# Altium integrated library SnapEDA_Library.IntLib: 26 symbols (part 1 of 2)
Pins are listed as number, name and electrical type; pins without a type are passive.

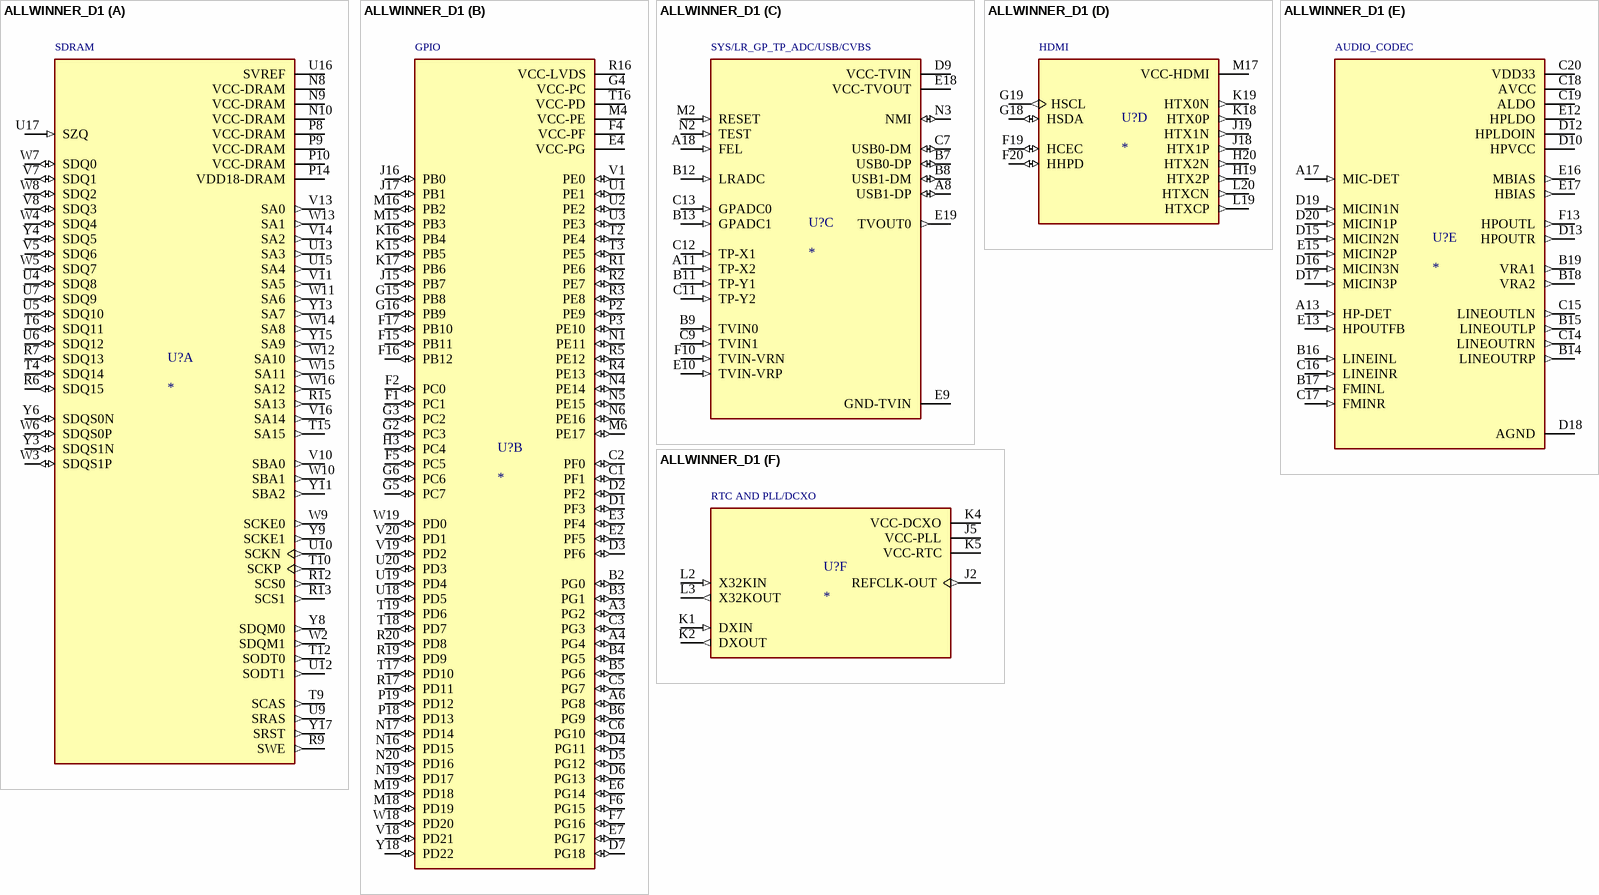
[diagram p0: symbol ALLWINNER_D1]

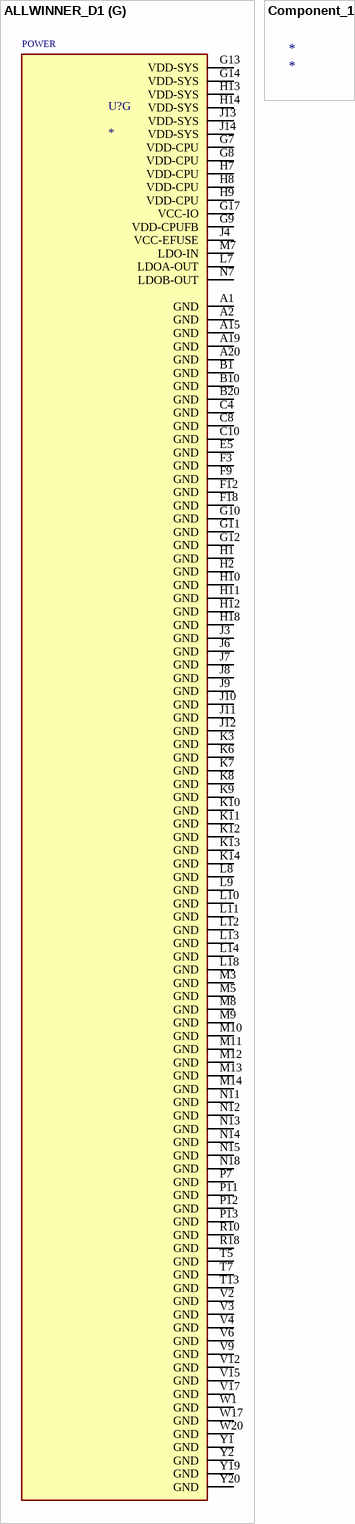
[diagram p1: symbols ALLWINNER_D1 to Component_1]

## ALLWINNER_D1
designator U?
MF: {'manufacturer': u'Allwinner Technology'}; MP: ALLWINNER_D1; Value: *; Availability: Unavailable; Price: None; Package: None
footprint BGA337C65P20X20_1300X1300X133
part A pins: N8 VCC-DRAM (power), N9 VCC-DRAM (power), N10 VCC-DRAM (power), P8 VCC-DRAM (power), P9 VCC-DRAM (power), P10 VCC-DRAM (power), P14 VDD18-DRAM (power), R6 SDQ15 (io), R7 SDQ13 (io), R9 SWE (out), R12 SCS0 (out), R13 SCS1 (out), R15 SA13 (out), T4 SDQ14 (io), T6 SDQ11 (io), T9 SCAS (out), T10 SCKP (out), T12 SODT0 (out), T15 SA15 (out), U4 SDQ8 (io), U5 SDQ10 (io), U6 SDQ12 (io), U7 SDQ9 (io), U9 SRAS (out), U10 SCKN (out), U12 SODT1 (out), U13 SA3 (out), U15 SA4 (out), U16 SVREF (power), U17 SZQ (in), V5 SDQ6 (io), V7 SDQ1 (io), V8 SDQ3 (io), V10 SBA0 (out), V11 SA5 (out), V13 SA0 (out), V14 SA2 (out), V16 SA14 (out), W2 SDQM1 (out), W3 SDQS1P (io), W4 SDQ4 (io), W5 SDQ7 (io), W6 SDQS0P (io), W7 SDQ0 (io), W8 SDQ2 (io), W9 SCKE0 (out), W10 SBA1 (out), W11 SA6 (out), W12 SA10 (out), W13 SA1 (out), W14 SA8 (out), W15 SA11 (out), W16 SA12 (out), Y3 SDQS1N (io), Y4 SDQ5 (io), Y6 SDQS0N (io), Y8 SDQM0 (out), Y9 SCKE1 (out), Y11 SBA2 (out), Y13 SA7 (out), Y15 SA9 (out), Y17 SRST (out)
part B pins: A3 PG2 (io), A4 PG4 (io), A6 PG8 (io), B2 PG0 (io), B3 PG1 (io), B4 PG5 (io), B5 PG6 (io), B6 PG9 (io), C1 PF1 (io), C2 PF0 (io), C3 PG3 (io), C5 PG7 (io), C6 PG10 (io), D1 PF3 (io), D2 PF2 (io), D3 PF6 (io), D4 PG11 (io), D5 PG12 (io), D6 PG13 (io), D7 PG18 (io), E2 PF5 (io), E3 PF4 (io), E4 VCC-PG (power), E6 PG14 (io), E7 PG17 (io), F1 PC1 (io), F2 PC0 (io), F4 VCC-PF (power), F5 PC5 (io), F6 PG15 (io), F7 PG16 (io), F15 PB11 (io), F16 PB12 (io), F17 PB10 (io), G2 PC3 (io), G3 PC2 (io), G4 VCC-PC (power), G5 PC7 (io), G6 PC6 (io), G15 PB8 (io), G16 PB9 (io), H3 PC4 (io), J15 PB7 (io), J16 PB0 (io), J17 PB1 (io), K15 PB5 (io), K16 PB4 (io), K17 PB6 (io), M4 VCC-PE (power), M6 PE17 (io), M15 PB3 (io), M16 PB2 (io), M18 PD19 (io), M19 PD18 (io), N1 PE11 (io), N4 PE14 (io), N5 PE15 (io), N6 PE16 (io), N16 PD15 (io), N17 PD14 (io), N19 PD17 (io), N20 PD16 (io), P2 PE9 (io), P3 PE10 (io), P18 PD13 (io), P19 PD12 (io), R1 PE6 (io), R2 PE7 (io), R3 PE8 (io), R4 PE13 (io), R5 PE12 (io), R16 VCC-LVDS (power), R17 PD11 (io), R19 PD9 (io), R20 PD8 (io), T2 PE4 (io), T3 PE5 (io), T16 VCC-PD (power), T17 PD10 (io), T18 PD7 (io), T19 PD6 (io), U1 PE1 (io), U2 PE2 (io), U3 PE3 (io), U18 PD5 (io), U19 PD4 (io), U20 PD3 (io), V1 PE0 (io), V18 PD21 (io), V19 PD2 (io), V20 PD1 (io), W18 PD20 (io), W19 PD0 (io), Y18 PD22 (io)
part C pins: A8 USB1-DP (io), A11 TP-X2 (in), A18 FEL (in), B7 USB0-DP (io), B8 USB1-DM (io), B9 TVIN0 (in), B11 TP-Y1 (in), B12 LRADC (in), B13 GPADC1 (in), C7 USB0-DM (io), C9 TVIN1 (in), C11 TP-Y2 (in), C12 TP-X1 (in), C13 GPADC0 (in), D9 VCC-TVIN (power), E9 GND-TVIN (power), E10 TVIN-VRP (in), E18 VCC-TVOUT (power), E19 TVOUT0 (out), F10 TVIN-VRN (in), M2 RESET (in), N2 TEST (in), N3 NMI (io)
part D pins: F19 HCEC (io), F20 HHPD (io), G18 HSDA (io), G19 HSCL (out), H19 HTX2P (out), H20 HTX2N (out), J18 HTX1P (out), J19 HTX1N (out), K18 HTX0P (out), K19 HTX0N (out), L19 HTXCP (out), L20 HTXCN (out), M17 VCC-HDMI (power)
part E pins: A13 HP-DET (in), A17 MIC-DET (in), B14 LINEOUTRP (out), B15 LINEOUTLP (out), B16 LINEINL (in), B17 FMINL (in), B18 VRA2 (out), B19 VRA1 (out), C14 LINEOUTRN (out), C15 LINEOUTLN (out), C16 LINEINR (in), C17 FMINR (in), C18 AVCC (power), C19 ALDO (power), C20 VDD33 (power), D10 HPVCC (power), D12 HPLDOIN (power), D13 HPOUTR (out), D15 MICIN2N (in), D16 MICIN3N (in), D17 MICIN3P (in), D18 AGND (power), D19 MICIN1N (in), D20 MICIN1P (in), E12 HPLDO (power), E13 HPOUTFB (in), E15 MICIN2P (in), E16 MBIAS (out), E17 HBIAS (out), F13 HPOUTL (out)
part F pins: J2 REFCLK-OUT (out), J5 VCC-PLL (power), K1 DXIN (in), K2 DXOUT (out), K4 VCC-DCXO (power), K5 VCC-RTC (power), L2 X32KIN (in), L3 X32KOUT (out)
part G pins: A1 GND (power), A2 GND (power), A15 GND (power), A19 GND (power), A20 GND (power), B1 GND (power), B10 GND (power), B20 GND (power), C4 GND (power), C8 GND (power), C10 GND (power), E5 GND (power), F3 GND (power), F9 GND (power), F12 GND (power), F18 GND (power), G7 VDD-CPU (power), G8 VDD-CPU (power), G9 VDD-CPUFB (power), G10 GND (power), G11 GND (power), G12 GND (power), G13 VDD-SYS (power), G14 VDD-SYS (power), G17 VCC-IO (power), H1 GND (power), H2 GND (power), H7 VDD-CPU (power), H8 VDD-CPU (power), H9 VDD-CPU (power), H10 GND (power), H11 GND (power), H12 GND (power), H13 VDD-SYS (power), H14 VDD-SYS (power), H18 GND (power), J3 GND (power), J4 VCC-EFUSE (power), J6 GND (power), J7 GND (power), J8 GND (power), J9 GND (power), J10 GND (power), J11 GND (power), J12 GND (power), J13 VDD-SYS (power), J14 VDD-SYS (power), K3 GND (power), K6 GND (power), K7 GND (power), K8 GND (power), K9 GND (power), K10 GND (power), K11 GND (power), K12 GND (power), K13 GND (power), K14 GND (power), L7 LDOA-OUT (power), L8 GND (power), L9 GND (power), L10 GND (power), L11 GND (power), L12 GND (power), L13 GND (power), L14 GND (power), L18 GND (power), M3 GND (power), M5 GND (power), M7 LDO-IN (power), M8 GND (power), M9 GND (power), M10 GND (power), M11 GND (power), M12 GND (power), M13 GND (power), M14 GND (power), N7 LDOB-OUT (power), N11 GND (power), N12 GND (power), N13 GND (power), N14 GND (power), N15 GND (power), N18 GND (power), P7 GND (power), P11 GND (power), P12 GND (power), P13 GND (power), R10 GND (power), R18 GND (power), T5 GND (power), T7 GND (power), T13 GND (power), V2 GND (power), V3 GND (power), V4 GND (power), V6 GND (power), V9 GND (power), V12 GND (power), V15 GND (power), V17 GND (power), W1 GND (power), W17 GND (power), W20 GND (power), Y1 GND (power), Y2 GND (power), Y19 GND (power), Y20 GND (power)
part A text: SDRAM
part B text: GPIO
part C text: SYS/LR_GP_TP_ADC/USB/CVBS
part D text: HDMI
part E text: AUDIO_CODEC
part F text: RTC AND PLL/DCXO
part G text: POWER

## Component_1
designator *


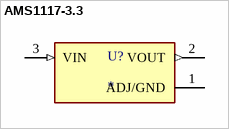
[diagram p2: symbol AMS1117-3.3]

## AMS1117-3.3
designator U?
Sot223/Pkg 1-Amp 3.3-Volt Low Drop Out Voltage Regulatator; MF: {'manufacturer': u'Advanced Monolithic Systems'}; MP: AMS1117-3.3; Price: None; Availability: Unavailable; Package: None; Value: *
footprint SOT229P700X180-4N
pins: 1 ADJ/GND (power), 2 VOUT (out), 3 VIN (in)


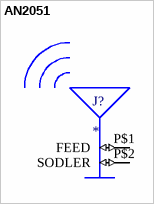
[diagram p3: symbol AN2051]

## AN2051
designator J?
AN2051 Multilayer Chip Antenna; MF: {'manufacturer': u'RainSun'}; Value: *; Package: None; MP: AN2051; Price: None; Availability: Unavailable
footprint AN2051
pins: P$1 FEED (io), P$2 SODLER (io)


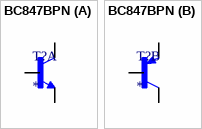
[diagram p4: symbol BC847BPN]

## BC847BPN
designator T?
NPN/PNP general-purpose transistor pair in a very small SOT363 (SC-88) Surface-Mounted Device (SMD) plastic package. <p><author>AAL Eindhoven MK</author><hr><p>  <img src="http://www.nxp.com/img/NXP_logo.png">; MP: BC847BPN; MF: {'manufacturer': u'NXP Semiconductors'}; Value: *; Availability: Unavailable; Package: None; Price: None
footprint SOT363
part A pins: 1 E, 2 B, 6 C
part B pins: 3 C, 4 E, 5 B


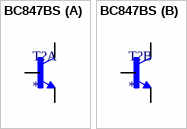
[diagram p5: symbol BC847BS]

## BC847BS
designator T?
NPN/NPN general-purpose transistor pair in a very small SOT363 (SC-88) Surface-Mounted Device (SMD) plastic package. <p><author>AAL Eindhoven MK</author><hr><p>  <img src="http://www.nxp.com/img/NXP_logo.png">; MP: BC847BS; MF: {'manufacturer': u'ON Semiconductor'}; Value: *; Availability: Unavailable; Package: None; Price: None
footprint SOT363
part A pins: 1 E, 2 B, 6 C
part B pins: 1 E, 2 B, 6 C


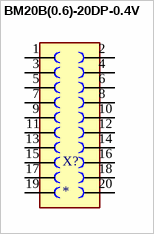
[diagram p6: symbol BM20B(0.6)-20DP-0.4V]

## BM20B(0.6)-20DP-0.4V
designator X?
<b>SMD CONNECTOR</b><p> Source: con-hirose.lbr from Bob Starr &lt;rtzaudio@mindspring.com&gt;; MP: BM20B(0.6)-20DP-0.4V; MF: {'manufacturer': u'Hirose Electric Co Ltd'}; Price: None; Availability: Unavailable; Value: *; Package: None
footprint BM20B(0.6)-20DP-0.4V_2
pins: 1, 2, 3, 4, 5, 6, 7, 8, 9, 10, 11, 12, 13, 14, 15, 16, 17, 18, 19, 20


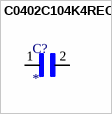
[diagram p7: symbol C0402C104K4REC]

## C0402C104K4REC
designator C?
MP: C0402C104K4REC; MF: {'manufacturer': u'KEMET'}; Package: None; Availability: Unavailable; Price: None; Value: *
footprint CAPC1005X55N
pins: 1, 2


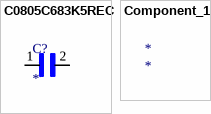
[diagram p8: symbols C0805C683K5REC to Component_1]

## C0805C683K5REC
designator C?
MF: {'manufacturer': u'KEMET'}; MP: C0805C683K5REC; Value: *; Availability: Unavailable; Price: None; Package: None
footprint CAPC2012X110N
pins: 1, 2

## Component_1
designator *


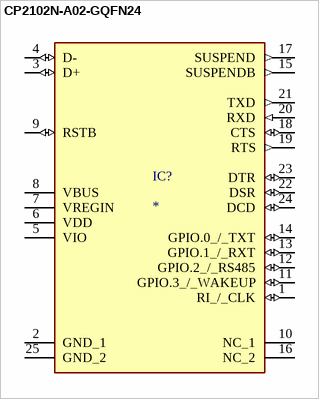
[diagram p9: symbol CP2102N-A02-GQFN24]

## CP2102N-A02-GQFN24
designator IC?
<b>USB Interface IC USB to UART bridge - QFN24</b><p> Source: <a href="https://componentsearchengine.com/Datasheets/1/CP2102N-A02-GQFN24.pdf"> Datasheet </a>; MF: {'manufacturer': u'Silicon Labs'}; Package: None; Value: *; Price: None; MP: CP2102N-A02-GQFN24; Availability: Unavailable
footprint QFN50P400X400X80-25N
pins: 1 RI_/_CLK (io), 2 GND_1 (power), 3 D+ (io), 4 D- (io), 5 VIO (power), 6 VDD (power), 7 VREGIN (power), 8 VBUS (power), 9 RSTB (io), 10 NC_1, 11 GPIO.3_/_WAKEUP (io), 12 GPIO.2_/_RS485 (io), 13 GPIO.1_/_RXT (io), 14 GPIO.0_/_TXT (io), 15 SUSPENDB (out), 16 NC_2, 17 SUSPEND (out), 18 CTS (io), 19 RTS (out), 20 RXD (in), 21 TXD (out), 22 DSR (io), 23 DTR (io), 24 DCD (io), 25 GND_2 (power)


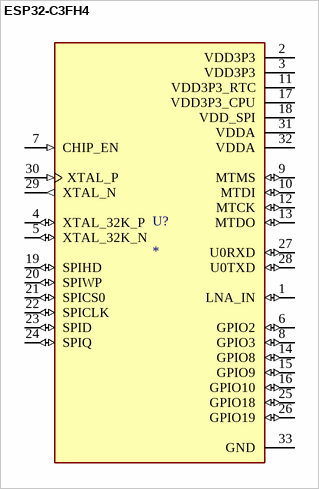
[diagram p10: symbol ESP32-C3FH4]

## ESP32-C3FH4
designator U?
MF: {'manufacturer': u'Espressif Systems'}; MP: ESP32-C3FH4; Value: *; Price: None; Package: None; Availability: Unavailable
footprint QFN50P500X500X90-33N
pins: 1 LNA_IN (io), 2 VDD3P3 (power), 3 VDD3P3 (power), 4 XTAL_32K_P (io), 5 XTAL_32K_N (io), 6 GPIO2 (io), 7 CHIP_EN (in), 8 GPIO3 (io), 9 MTMS (io), 10 MTDI (io), 11 VDD3P3_RTC (power), 12 MTCK (io), 13 MTDO (io), 14 GPIO8 (io), 15 GPIO9 (io), 16 GPIO10 (io), 17 VDD3P3_CPU (power), 18 VDD_SPI (power), 19 SPIHD (io), 20 SPIWP (io), 21 SPICS0 (io), 22 SPICLK (io), 23 SPID (io), 24 SPIQ (io), 25 GPIO18 (io), 26 GPIO19 (io), 27 U0RXD (io), 28 U0TXD (io), 29 XTAL_N (out), 30 XTAL_P (in), 31 VDDA (power), 32 VDDA (power), 33 GND (power)


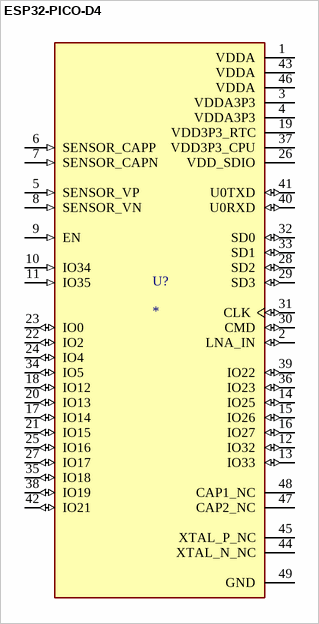
[diagram p11: symbol ESP32-PICO-D4]

## ESP32-PICO-D4
designator U?
Bluetooth, WiFi 802.11b/g/n, Bluetooth v4.2 +EDR, Class 1, 2 and 3 Transceiver Module 2.4GHz ~ 2.5GHz Surface Mount; MF: {'manufacturer': u'Espressif Systems'}; MP: ESP32-PICO-D4; Value: *; Price: None; Availability: Unavailable; Package: None
footprint PQFN50P700X700X104-49N
pins: 1 VDDA (power), 2 LNA_IN (io), 3 VDDA3P3 (power), 4 VDDA3P3 (power), 5 SENSOR_VP (in), 6 SENSOR_CAPP (in), 7 SENSOR_CAPN (in), 8 SENSOR_VN (in), 9 EN (in), 10 IO34 (in), 11 IO35 (in), 12 IO32 (io), 13 IO33 (io), 14 IO25 (io), 15 IO26 (io), 16 IO27 (io), 17 IO14 (io), 18 IO12 (io), 19 VDD3P3_RTC (power), 20 IO13 (io), 21 IO15 (io), 22 IO2 (io), 23 IO0 (io), 24 IO4 (io), 25 IO16 (io), 26 VDD_SDIO (power), 27 IO17 (io), 28 SD2 (io), 29 SD3 (io), 30 CMD (io), 31 CLK (io), 32 SD0 (io), 33 SD1 (io), 34 IO5 (io), 35 IO18 (io), 36 IO23 (io), 37 VDD3P3_CPU (power), 38 IO19 (io), 39 IO22 (io), 40 U0RXD (io), 41 U0TXD (io), 42 IO21 (io), 43 VDDA (power), 44 XTAL_N_NC, 45 XTAL_P_NC, 46 VDDA (power), 47 CAP2_NC, 48 CAP1_NC, 49 GND (power)


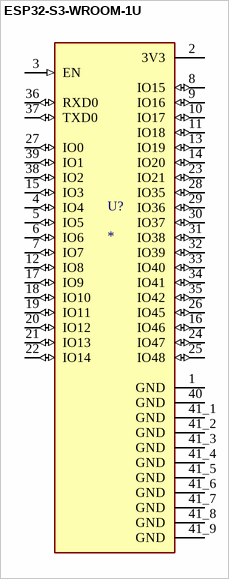
[diagram p12: symbol ESP32-S3-WROOM-1U]

## ESP32-S3-WROOM-1U
designator U?
2.4 GHz Wi-Fi (802.11 b/g/n) and Bluetooth 5 (LE) module; MP: ESP32-S3-WROOM-1U; MF: {'manufacturer': u'Espressif Systems'}; Value: *; Package: None; Price: None; Availability: Unavailable
footprint XCVR_ESP32-S3-WROOM-1U
pins: 1 GND (power), 2 3V3 (power), 3 EN (in), 4 IO4 (io), 5 IO5 (io), 6 IO6 (io), 7 IO7 (io), 8 IO15 (io), 9 IO16 (io), 10 IO17 (io), 11 IO18 (io), 12 IO8 (io), 13 IO19 (io), 14 IO20 (io), 15 IO3 (io), 16 IO46 (io), 17 IO9 (io), 18 IO10 (io), 19 IO11 (io), 20 IO12 (io), 21 IO13 (io), 22 IO14 (io), 23 IO21 (io), 24 IO47 (io), 25 IO48 (io), 26 IO45 (io), 27 IO0 (io), 28 IO35 (io), 29 IO36 (io), 30 IO37 (io), 31 IO38 (io), 32 IO39 (io), 33 IO40 (io), 34 IO41 (io), 35 IO42 (io), 36 RXD0 (io), 37 TXD0 (io), 38 IO2 (io), 39 IO1 (io), 40 GND (power), 41_1 GND (power), 41_2 GND (power), 41_3 GND (power), 41_4 GND (power), 41_5 GND (power), 41_6 GND (power), 41_7 GND (power), 41_8 GND (power), 41_9 GND (power)


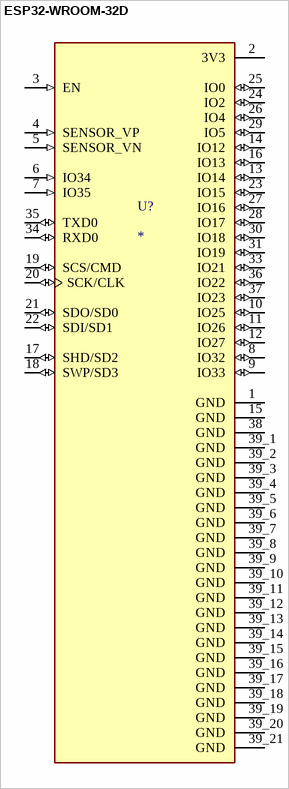
[diagram p13: symbol ESP32-WROOM-32D]

## ESP32-WROOM-32D
designator U?
Bluetooth, WiFi 802.11b/g/n, Bluetooth v4.2 + EDR, Class 1, 2 and 3 Transceiver Module 2.4GHz ~ 2.5GHz Integrated, Trace Surface Mount; MF: {'manufacturer': u'Espressif Systems'}; MP: ESP32-WROOM-32D; Value: *; Package: None; Price: None; Availability: Unavailable
footprint MODULE_ESP32-WROOM-32D
pins: 1 GND (power), 2 3V3 (power), 3 EN (in), 4 SENSOR_VP (in), 5 SENSOR_VN (in), 6 IO34 (in), 7 IO35 (in), 8 IO32 (io), 9 IO33 (io), 10 IO25 (io), 11 IO26 (io), 12 IO27 (io), 13 IO14 (io), 14 IO12 (io), 15 GND (power), 16 IO13 (io), 17 SHD/SD2 (io), 18 SWP/SD3 (io), 19 SCS/CMD (io), 20 SCK/CLK (io), 21 SDO/SD0 (io), 22 SDI/SD1 (io), 23 IO15 (io), 24 IO2 (io), 25 IO0 (io), 26 IO4 (io), 27 IO16 (io), 28 IO17 (io), 29 IO5 (io), 30 IO18 (io), 31 IO19 (io), 33 IO21 (io), 34 RXD0 (io), 35 TXD0 (io), 36 IO22 (io), 37 IO23 (io), 38 GND (power), 39_1 GND (power), 39_2 GND (power), 39_3 GND (power), 39_4 GND (power), 39_5 GND (power), 39_6 GND (power), 39_7 GND (power), 39_8 GND (power), 39_9 GND (power), 39_10 GND (power), 39_11 GND (power), 39_12 GND (power), 39_13 GND (power), 39_14 GND (power), 39_15 GND (power), 39_16 GND (power), 39_17 GND (power), 39_18 GND (power), 39_19 GND (power), 39_20 GND (power), 39_21 GND (power)


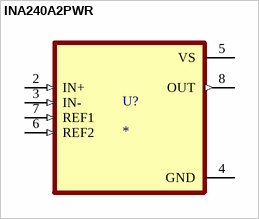
[diagram p14: symbol INA240A2PWR]

## INA240A2PWR
designator U?
MF: {'manufacturer': u'Texas Instruments'}; MP: INA240A2PWR; Price: None; Availability: Unavailable; Package: None; Value: *
footprint SOP65P640X120-8N
pins: 2 IN+ (in), 3 IN- (in), 4 GND (power), 5 VS (power), 6 REF2 (in), 7 REF1 (in), 8 OUT (out)


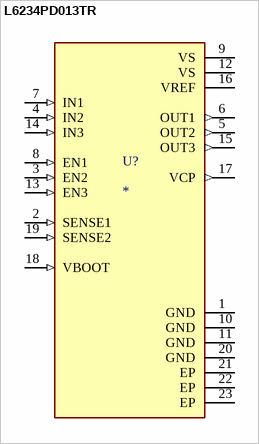
[diagram p15: symbol L6234PD013TR]

## L6234PD013TR
designator U?
3-Phase Brushless DC Motor Controller 42V Automotive 20-Pin PowerSO T/R; MF: {'manufacturer': u'STMicroelectronics'}; MP: L6234PD013TR; Price: None; Availability: Unavailable; Package: None; Value: *
footprint SOIC127P1420X360-21N
pins: 1 GND (power), 2 SENSE1 (in), 3 EN2 (in), 4 IN2 (in), 5 OUT2 (out), 6 OUT1 (out), 7 IN1 (in), 8 EN1 (in), 9 VS (power), 10 GND (power), 11 GND (power), 12 VS (power), 13 EN3 (in), 14 IN3 (in), 15 OUT3 (out), 16 VREF (power), 17 VCP (out), 18 VBOOT (in), 19 SENSE2 (in), 20 GND (power), 21 EP (power), 22 EP (power), 23 EP (power)


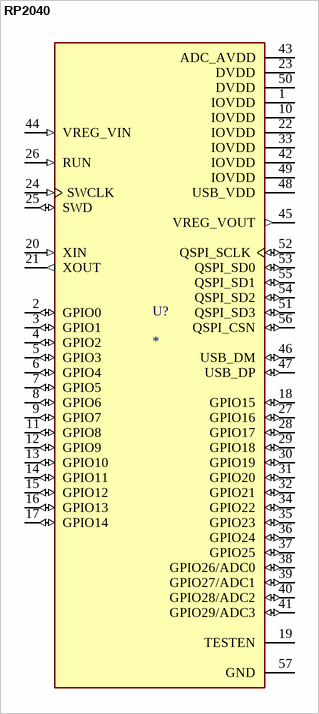
[diagram p16: symbol RP2040]

## RP2040
designator U?
MF: {'manufacturer': u'Raspberry Pi'}; MP: RP2040; Value: *; Price: None; Package: None; Availability: Unavailable
footprint QFN40P700X700X90-57N
pins: 1 IOVDD (power), 2 GPIO0 (io), 3 GPIO1 (io), 4 GPIO2 (io), 5 GPIO3 (io), 6 GPIO4 (io), 7 GPIO5 (io), 8 GPIO6 (io), 9 GPIO7 (io), 10 IOVDD (power), 11 GPIO8 (io), 12 GPIO9 (io), 13 GPIO10 (io), 14 GPIO11 (io), 15 GPIO12 (io), 16 GPIO13 (io), 17 GPIO14 (io), 18 GPIO15 (io), 19 TESTEN, 20 XIN (in), 21 XOUT (out), 22 IOVDD (power), 23 DVDD (power), 24 SWCLK (in), 25 SWD (io), 26 RUN (in), 27 GPIO16 (io), 28 GPIO17 (io), 29 GPIO18 (io), 30 GPIO19 (io), 31 GPIO20 (io), 32 GPIO21 (io), 33 IOVDD (power), 34 GPIO22 (io), 35 GPIO23 (io), 36 GPIO24 (io), 37 GPIO25 (io), 38 GPIO26/ADC0 (io), 39 GPIO27/ADC1 (io), 40 GPIO28/ADC2 (io), 41 GPIO29/ADC3 (io), 42 IOVDD (power), 43 ADC_AVDD (power), 44 VREG_VIN (in), 45 VREG_VOUT (out), 46 USB_DM (io), 47 USB_DP (io), 48 USB_VDD (power), 49 IOVDD (power), 50 DVDD (power), 51 QSPI_SD3 (io), 52 QSPI_SCLK (io), 53 QSPI_SD0 (io), 54 QSPI_SD2 (io), 55 QSPI_SD1 (io), 56 QSPI_CSN (io), 57 GND (power)


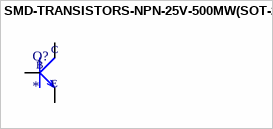
[diagram p17: symbol SMD-TRANSISTORS-NPN-25V-500MW(SOT-23)]

## SMD-TRANSISTORS-NPN-25V-500MW(SOT-23)
designator Q?
305010017; MP: S8050; MF: {'manufacturer': u'Microdiode Electronics'}; Value: *; Package: None; Price: None; Availability: Unavailable
footprint SOT-23
pins: 1 B, 2 E, 3 C


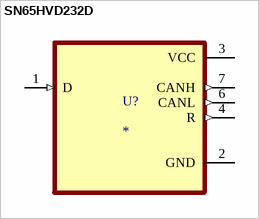
[diagram p18: symbol SN65HVD232D]

## SN65HVD232D
designator U?
MP: SN65HVD232D; MF: {'manufacturer': u'Texas Instruments'}; Availability: Unavailable; Package: None; Price: None; Value: *
footprint SOIC127P599X175-8N
pins: 1 D (in), 2 GND (power), 3 VCC (power), 4 R (out), 6 CANL (out), 7 CANH (out)


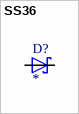
[diagram p19: symbol SS36]

## SS36
designator D?
3A 60V Schottky diode; MF: {'manufacturer': u'ON Semiconductor'}; MP: SS36; Price: None; Availability: Unavailable; Package: None; Value: *
footprint SMA
pins: A, C


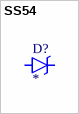
[diagram p20: symbol SS54]

## SS54
designator D?
SCHOTTKY DIODES 40Vpeak, 28Vrms 5A (SBD) SMA(DO-214AC); MF: {'manufacturer': u'Honeywell Sensing'}; MP: SS54; Price: None; Availability: Unavailable; Package: None; Value: *
footprint DO-214AC
pins: A, C


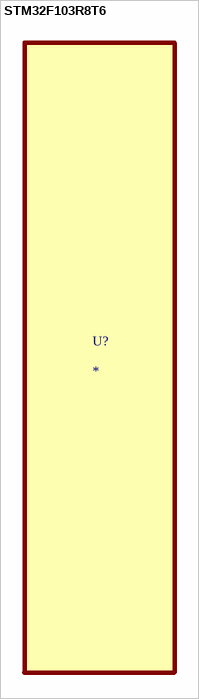
[diagram p21: symbol STM32F103R8T6]

## STM32F103R8T6
designator U?
MP: STM32F103R8T6; MF: {'manufacturer': u'STMicroelectronics'}; Package: None; Availability: Unavailable; Price: None; Value: *


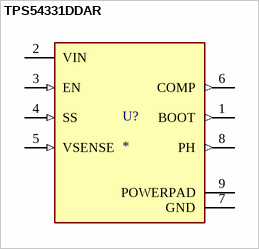
[diagram p22: symbol TPS54331DDAR]

## TPS54331DDAR
designator U?
3.5V to 28V Input, 3A, 570kHz Step-Down Converter with Eco-mode 8-SO PowerPAD -40 to 150; MF: {'manufacturer': u'Texas Instruments'}; MP: TPS54331DDAR; Price: None; Availability: Unavailable; Package: None; Value: *
footprint CONV_TPS54331DDAR
pins: 1 BOOT (out), 2 VIN (power), 3 EN (in), 4 SS (in), 5 VSENSE (in), 6 COMP (out), 7 GND (power), 8 PH (out), 9 POWERPAD (power)
